# EAGLE library part CONNECTOR-HEADER-6P (library OPL)
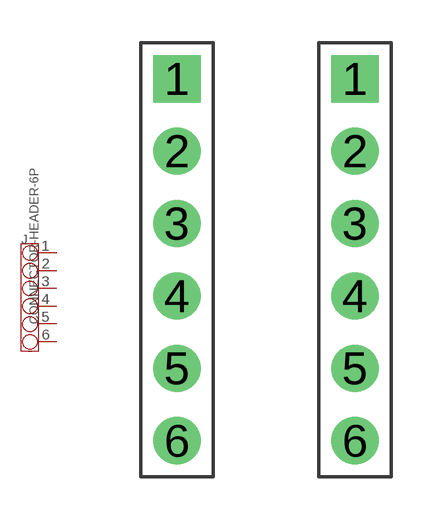
[diagram p8: symbol with the pads of 1X6P-2.54-2.54-11.6-3.0-BLACK-MALE; footprints 1X6P-2.54-2.54-11.6-3.0-BLACK-MALE, 1X6P-2.54-8.5+2.5-12.3-BLUE-FEMALE]

Designator prefix J

## CONNECTOR-HEADER-6P-3460650P1  [1X6P-2.54-2.54-11.6-3.0-BLACK-MALE]
1  1
2  2
3  3
4  4
5  5
6  6

## CONNECTOR-HEADER-6P-3461250P1  [1X6P-2.54-8.5+2.5-12.3-BLUE-FEMALE]
Pads as for 1X6P-2.54-2.54-11.6-3.0-BLACK-MALE

## CONNECTOR-HEADER-6P-3460270P1  [1X6P-2.54-8.5-BLACK-FEMALE]
Pads as for 1X6P-2.54-2.54-11.6-3.0-BLACK-MALE

## CONNECTOR-HEADER-6P-3460540P1  [1X6P-2.54-8.5-WHITE-FEMALE]
Pads as for 1X6P-2.54-2.54-11.6-3.0-BLACK-MALE

## Footprint 1X6P-2.54-2.54-11.6-3.0-BLACK-MALE (pad centres in mm)
drill 0.889 pad 1.651 square: 1 0,6.35
drill 0.889 pad 1.651: 2 0,3.81; 3 0,1.27; 4 0,-1.27; 5 0,-3.81; 6 0,-6.35

## Footprint 1X6P-2.54-8.5+2.5-12.3-BLUE-FEMALE (pad centres in mm)
drill 0.889 pad 1.651 square: 1 0,6.35
drill 0.889 pad 1.651: 2 0,3.81; 3 0,1.27; 4 0,-1.27; 5 0,-3.81; 6 0,-6.35

## Footprint 1X6P-2.54-8.5-BLACK-FEMALE (pad centres in mm)
drill 0.889 pad 1.651 square: 1 0,6.35
drill 0.889 pad 1.651: 2 0,3.81; 3 0,1.27; 4 0,-1.27; 5 0,-3.81; 6 0,-6.35

## Footprint 1X6P-2.54-8.5-WHITE-FEMALE (pad centres in mm)
drill 0.889 pad 1.651 square: 1 0,6.35
drill 0.889 pad 1.651: 2 0,3.81; 3 0,1.27; 4 0,-1.27; 5 0,-3.81; 6 0,-6.35